# EAGLE library part MICROFIT-06-DUAL (library Molex-Aaron_2)
Molex MicroFit 3.00mm Pitch Header, Surface Mount, Dual Row, 6 Circuits Molex P/N: 43045-0609 (right-angle) 43045-0618 (vertical) RA: Drawing: http://www.molex.com/pdm_docs/sd/430450609_sd.pdf (right-angle) Information: http://www.molex.com/molex/products/datasheet.jsp?part=active/0430450618_PCB_HEADERS.xml
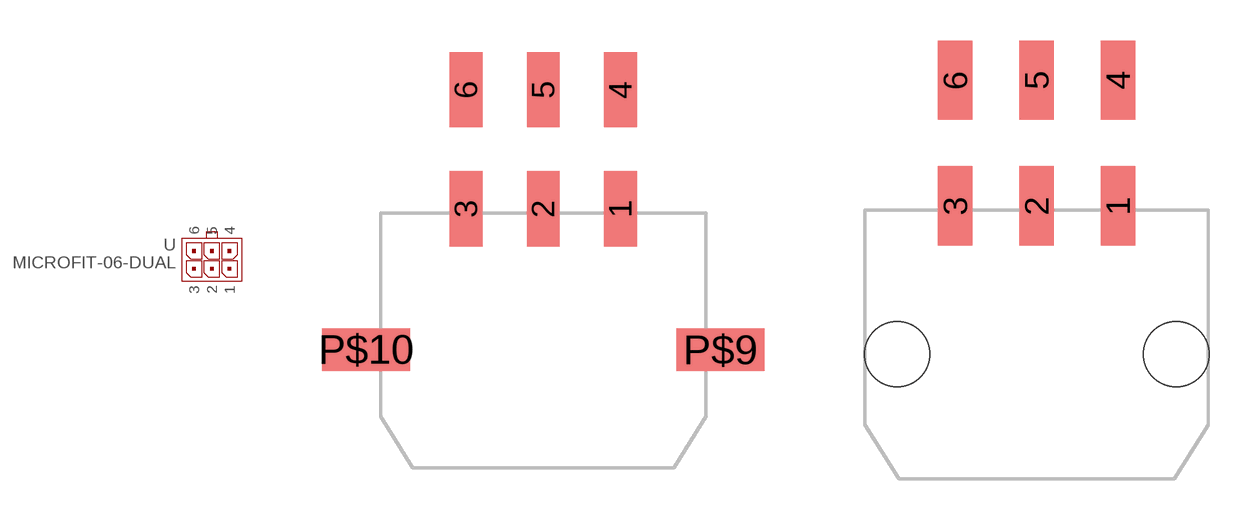
[diagram p1: symbol with the pads of MICROFIT-6-DUAL-RA-SMD; footprints MICROFIT-6-DUAL-RA-SMD, MICROFIT-6-DUAL-RA-SMD-CLIP_RETENTION]

Designator prefix -

## MICROFIT-06-DUAL-RA-SMD  [MICROFIT-6-DUAL-RA-SMD]
1  4
2  5
3  6
4  3
5  2
6  1

## MICROFIT-06-DUAL-RA-SMD-CLIP_RETENTION  [MICROFIT-6-DUAL-RA-SMD-CLIP_RETENTION]
1  1
2  2
3  3
4  4
5  5
6  6

## MICROFIT-06-DUAL-VERT-SMD-CLIP_RETENTION  [MICROFIT-6-VERT-SMD-CLIP_RETENTION]
Pads as for MICROFIT-6-DUAL-RA-SMD-CLIP_RETENTION

## Footprint MICROFIT-6-DUAL-RA-SMD (pad centres in mm)
Molex MicroFit 3.00mm Pitch Header, Surface Mount, Dual Row, Right Angle, 6 Circuits Molex P/N: 43045-0609 Drawing: http://www.molex.com/pdm_docs/sd/430450609_sd.pdf
smd 1.27 x 2.921: 1 3,5.47; 2 0,5.47; 3 -3,5.47; 4 3,10.1; 5 0,10.1; 6 -3,10.1
smd 3.429 x 1.651: P$9 6.883,0; P$10 -6.883,0

## Footprint MICROFIT-6-DUAL-RA-SMD-CLIP_RETENTION (pad centres in mm)
smd 1.27 x 2.921: 1 3,5.47; 2 0,5.47; 3 -3,5.47; 4 3,10.1; 5 0,10.1; 6 -3,10.1
hole 2.413 at 5.144,0
hole 2.413 at -5.144,0

## Footprint MICROFIT-6-VERT-SMD-CLIP_RETENTION (pad centres in mm)
smd 1.27 x 2.54: 1 3,-4.699; 2 0,-4.699; 3 -3,-4.699; 4 3,4.699; 5 0,4.699; 6 -3,4.699
hole 2.41 at 5.15,0
hole 2.41 at -5.15,0